# Altium footprint library Capacitance.PcbLib: 58 footprints (part 1 of 4)
Each footprint in its own frame and in the unit in brackets; x right, y up, seen from the top. Pads: shape width x height; smd on the part's side, far side on the other; paste and mask are expansions set on the pad; w line width, h text height; cw(c..) or ccw(c..) is an arc to the next point about the centre after c.
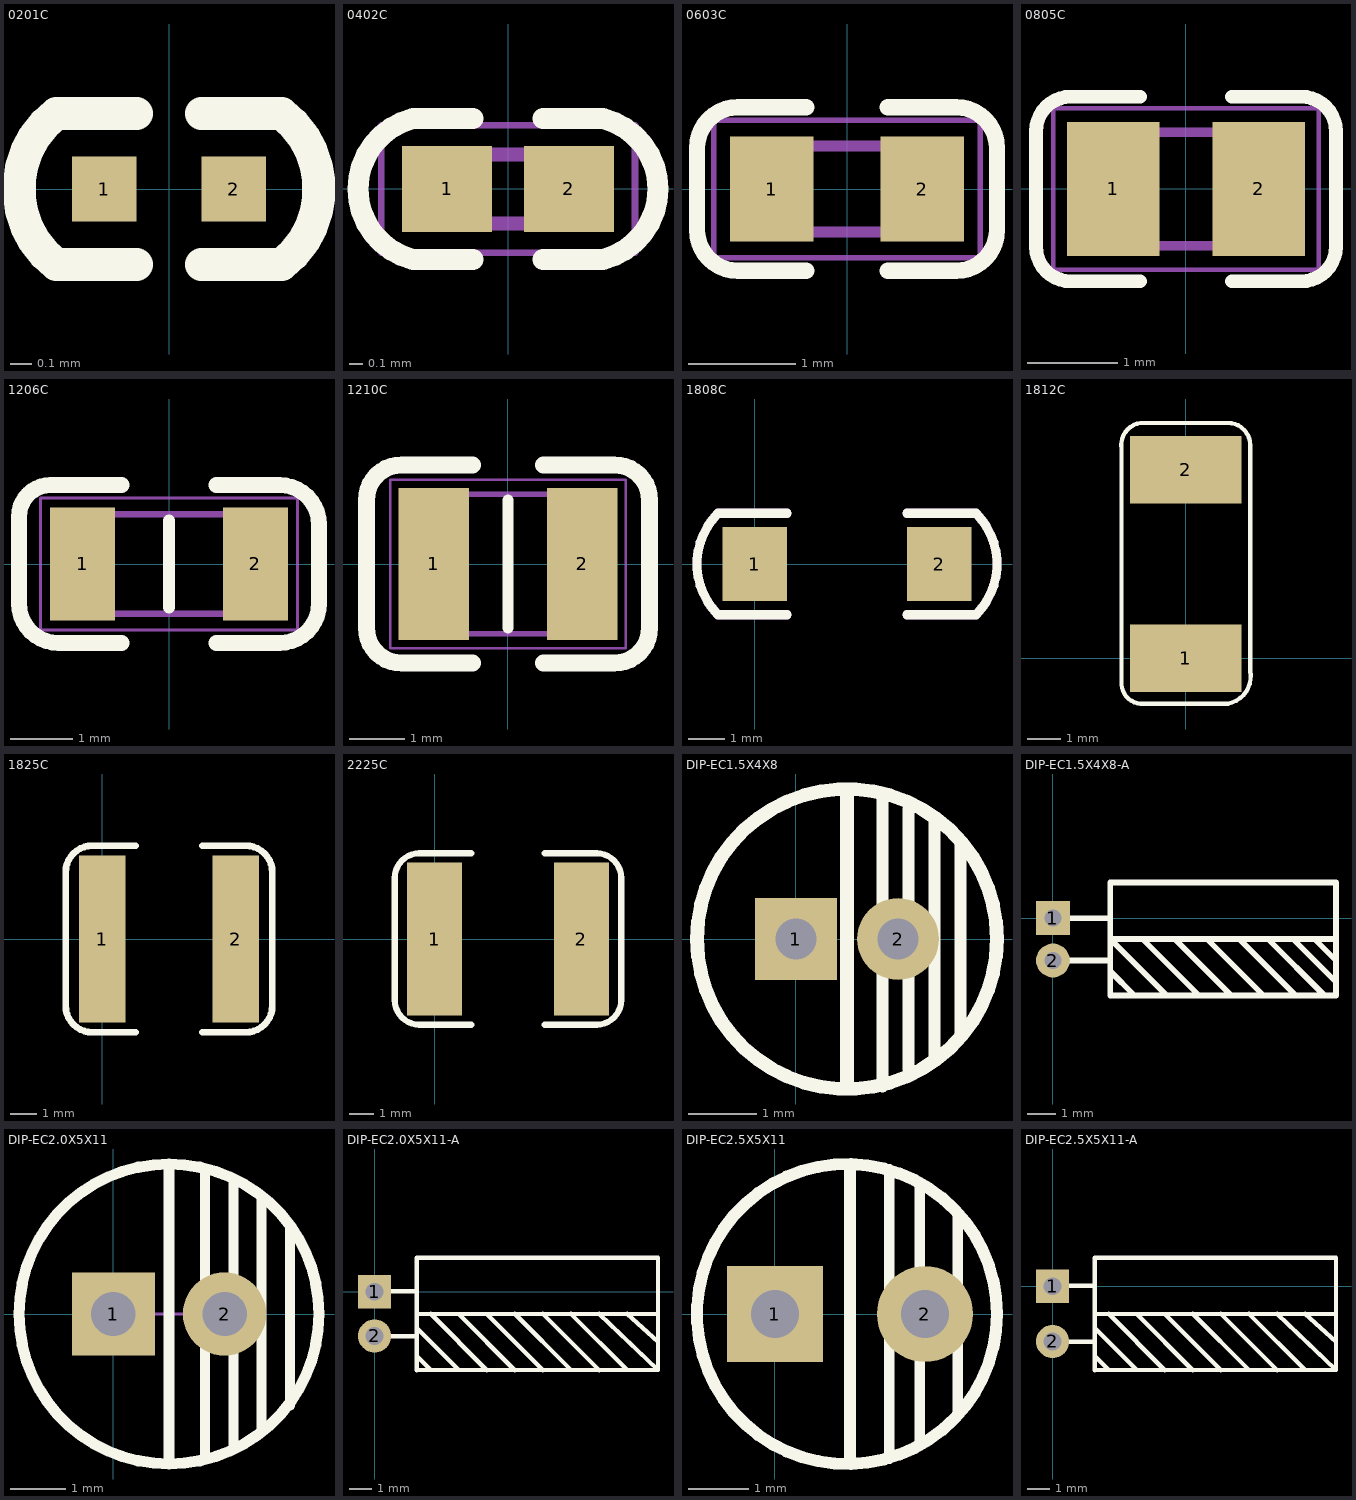
[diagram p0: the footprints below, top view; thin cyan lines are the x and y axes]

## 0201C [mm]
pads (2):
  rect 0.3x0.3 smd: 1(-0.3,0) 2(0.3,0)
Top Overlay:
  lines w0.152: -0.15,-0.35 -0.523,-0.35 cw(c-0.254,0) -0.523,0.35 -0.15,0.35 ; 0.15,-0.35 0.523,-0.35 ccw(c0.254,0) 0.523,0.35 0.15,0.35
3D body "0201C.STEP": height 0.31, standoff 0, extent -0.3,-0.152 0.31,0.153

## 0402C [mm]
pads (2):
  rect 0.65x0.62 smd: 1(-0.44,0) 2(0.44,0)
Top Overlay:
  lines w0.152: -0.254,-0.508 -0.686,-0.508 cw(c-0.559,0) -0.686,0.508 -0.254,0.508 ; 0.254,-0.508 0.686,-0.508 ccw(c0.559,0) 0.686,0.508 0.254,0.508
Mechanical 7:
  lines w0.05: -0.915,-0.46 0.915,-0.46 0.915,0.46 -0.915,0.46 -0.915,-0.46
Mechanical 13:
  lines w0.1: -0.5,-0.25 -0.5,0.25 0.5,0.25 0.5,-0.25 -0.5,-0.25
Mechanical 15:
  lines w0.05: -0.915,-0.46 -0.915,0.46 0.915,0.46 0.915,-0.46 -0.915,-0.46
Mechanical 29:
  lines w0.05: -0.915,-0.46 -0.915,0.46 0.915,0.46 0.915,-0.46 -0.915,-0.46
  text ".Designator" at -0.762,-0.127 h0.38
3D body "C0402C100C5GAC.stp": height 0.55, standoff 0, extent -0.508,-0.25 0.492,0.25

## 0603C [mm]
pads (2):
  rect 0.78x0.98 smd: 1(-0.7,0) 2(0.7,0)
Top Overlay:
  lines w0.152: -0.381,-0.762 -1.016,-0.762 cw(c-1.016,-0.381) -1.397,-0.381 -1.397,0.381 cw(c-1.016,0.381) -1.016,0.762 -0.889,0.762 -0.381,0.762 ; 0.381,-0.762 1.016,-0.762 ccw(c1.016,-0.381) 1.397,-0.381 1.397,0.381 ccw(c1.016,0.381) 1.016,0.762 0.381,0.762
Mechanical 7:
  lines w0.05: -1.24,-0.64 1.24,-0.64 1.24,0.64 -1.24,0.64 -1.24,-0.64
Mechanical 13:
  lines w0.1: -0.8,-0.4 0.8,-0.4 0.8,0.4 -0.8,0.4 -0.8,-0.4
Mechanical 15:
  lines w0.05: -1.24,-0.64 1.24,-0.64 1.24,0.64 -1.24,0.64 -1.24,-0.64
Mechanical 29:
  lines w0.05: -1.24,-0.64 -1.24,0.64 1.24,0.64 1.24,-0.64 -1.24,-0.64
  text ".Designator" at -1.143,-0.127 h0.51
3D body "C0603C100C3GACTU.stp": height 0.87, standoff 0, extent -0.8,-0.4 0.8,0.4

## 0805C [mm]
pads (2):
  rect 1.02x1.47 smd: 1(-0.8,0) 2(0.8,0)
Top Overlay:
  lines w0.152: -0.508,-1.016 -1.27,-1.016 cw(c-1.27,-0.635) -1.651,-0.635 -1.651,0.635 cw(c-1.27,0.635) -1.27,1.016 -0.508,1.016 ; 0.508,-1.016 1.27,-1.016 ccw(c1.27,-0.635) 1.651,-0.635 1.651,0.508 1.651,0.635 ccw(c1.27,0.635) 1.27,1.016 0.508,1.016
Mechanical 7:
  lines w0.05: -1.46,-0.89 1.46,-0.89 1.46,0.89 -1.46,0.89 -1.46,-0.89
Mechanical 13:
  lines w0.1: -1,-0.625 1,-0.625 1,0.625 -1,0.625 -1,-0.625
Mechanical 15:
  lines w0.05: -1.46,-0.89 -1.46,0.89 1.46,0.89 1.46,-0.89 -1.46,-0.89
Mechanical 29:
  lines w0.05: -1.46,-0.89 -1.46,0.89 1.46,0.89 1.46,-0.89 -1.46,-0.89
  text ".Designator" at -1.27,-0.254 h0.76
3D body "C0805C100J5GACTU.stp": height 0.88, standoff 0, extent -1,-0.625 1,0.625

## 1206C [mm]
pads (2):
  rect 1.05x1.82 smd: 1(-1.39,0) 2(1.39,0)
Top Overlay:
  lines w0.2: 0,-0.7 0,0.7
  lines w0.254: -0.762,-1.27 -1.778,-1.27 cw(c-1.778,-0.635) -2.413,-0.635 -2.413,0.762 cw(c-1.905,0.762) -1.905,1.27 -0.762,1.27 ; 0.762,-1.27 1.778,-1.27 ccw(c1.778,-0.635) 2.413,-0.635 2.413,0.635 ccw(c1.778,0.635) 1.778,1.27 0.762,1.27
Mechanical 7:
  lines w0.05: -2.065,-1.06 2.065,-1.06 2.065,1.06 -2.065,1.06 -2.065,-1.06
Mechanical 13:
  lines w0.1: -1.6,-0.8 1.6,-0.8 1.6,0.8 -1.6,0.8 -1.6,-0.8
Mechanical 15:
  lines w0.05: -2.065,-1.06 -2.065,1.06 2.065,1.06 2.065,-1.06 -2.065,-1.06
Mechanical 29:
  lines w0.05: -2.065,-1.06 2.065,-1.06 2.065,1.06 -2.065,1.06
  text ".Designator" at -1.778,-0.381 h0.89
3D body "CL31B106KAHNNNE.stp": height 1.8, standoff 0, extent -1.6,-0.8 1.6,0.8

## 1210C [mm]
pads (2):
  rect 1.26x2.72 smd: 1(-1.33,0) 2(1.33,0)
Top Overlay:
  lines w0.2: 0,-1.15 0,1.15
  lines w0.305: -0.635,-1.778 -1.905,-1.778 cw(c-1.905,-1.143) -2.54,-1.143 -2.54,1.143 cw(c-1.905,1.143) -1.905,1.778 -0.635,1.778 ; 0.635,-1.778 1.905,-1.778 ccw(c1.905,-1.143) 2.54,-1.143 2.54,1.143 ccw(c1.905,1.143) 1.905,1.778 0.635,1.778
Mechanical 7:
  lines w0.05: -2.11,-1.51 2.11,-1.51 ; -2.11,-1.51 -2.11,1.51 ; -2.11,-1.51 2.11,-1.51 ; -2.11,-1.51 -2.11,1.51 ; -2.11,-1.51 -2.11,1.51 ; -2.11,-1.51 2.11,-1.51 ; -2.11,1.51 2.11,1.51 ; -2.11,1.51 2.11,1.51 ; -2.11,1.51 2.11,1.51 ; 2.11,-1.51 2.11,1.51 ; 2.11,-1.51 2.11,1.51 ; 2.11,-1.51 2.11,1.51
Mechanical 13:
  lines w0.1: -1.6,-1.25 -1.6,1.25 1.6,1.25 1.6,-1.25 -1.6,-1.25
Mechanical 15:
  lines w0.05: -2.11,-1.51 2.11,-1.51 2.11,1.51 -2.11,1.51 -2.11,-1.51
Mechanical 29:
  lines w0.05: -2.11,-1.51 2.11,-1.51 ; -2.11,-1.51 -2.11,1.51 ; -2.11,-1.51 -2.11,1.51 ; -2.11,-1.51 2.11,-1.51 ; -2.11,-1.51 -2.11,1.51 ; -2.11,-1.51 2.11,-1.51 ; -2.11,1.51 2.11,1.51 ; -2.11,1.51 2.11,1.51 ; -2.11,1.51 2.11,1.51 ; 2.11,-1.51 2.11,1.51 ; 2.11,-1.51 2.11,1.51 ; 2.11,-1.51 2.11,1.51
  text ".Designator" at -1.905,-0.381 h1.02
3D body "GRM32ER61C476KE15L.stp": height 2.7, standoff 0, extent -1.6,-1.25 1.6,1.25

## 1808C [mil]
pads (2):
  rect 70x80 smd: 1(0,0) 2(200,0)
Top Overlay:
  lines w9.84: -40,-55 cw(c15,0) -40,55 ; 240,-55 ccw(c185,0) 240,55
  lines w10: -40,-55 35,-55 ; -40,55 35,55 ; 165,-55 240,-55 ; 165,55 240,55
Mechanical 7:
  lines w9.84: -40,-55 cw(c15,0) -40,55 ; 240,-55 ccw(c185,0) 240,55
  lines w10: -40,-55 35,-55 ; -40,55 35,55 ; 165,-55 240,-55 ; 165,55 240,55
Mechanical 29:
  lines w9.84: -40,-55 cw(c15,0) -40,55 ; 240,-55 ccw(c185,0) 240,55
  lines w10: -40,-55 35,-55 ; -40,55 35,55 ; 165,-55 240,-55 ; 165,55 240,55
  text ".Designator" at -10,-10 h30
3D body "1808C.STEP": height 80.1, standoff 0, extent -7.5,-40 217.5,40

## 1812C [mm]
pads (2):
  rect 3.302x2 smd: 1(0,0) 2(0,5.572)
Top Overlay:
  lines w0.127: -1.905,6.198 cw(c-1.245,6.299) -1.346,6.96 1.245,6.96 cw(c1.245,6.299) 1.905,6.299 1.905,-0.381 cw(c1.092,-0.533) 1.245,-1.346 -1.346,-1.346 cw(c-1.295,-0.737) -1.905,-0.686 -1.905,6.401
Mechanical 7:
  text ".Comment" at 0.635,-0.254 h0.76
  text ".Designator" at -0.364,-0.268 h0.76
3D body "1812 SMD Capacitor.STEP": height 1.6, standoff 0, extent -1.6,0.544 1.6,5.044

## 1825C [mil]
pads (2):
  rect 70x250 smd: 1(0,0) 2(200,0)
Top Overlay:
  lines w10: 50,-140 -15,-140 cw(c-15,-100) -55,-100 -55,100 cw(c-15,100) -15,140 50,140 ; 150,-140 215,-140 ccw(c215,-100) 255,-100 255,100 ccw(c215,100) 215,140 150,140
Mechanical 7:
  text ".Comment" at -15,-40 h30
  text ".Designator" at -25,35 h30
3D body "1825C.STEP": height 100.1, standoff 0, extent -10.62,-125.99 210.63,126.01

## 2225C [mil]
pads (2):
  rect 90x250 smd: 1(0,0) 2(240,0)
Top Overlay:
  lines w10: 60,-140 -25,-140 cw(c-25,-100) -65,-100 -65,100 cw(c-25,100) -25,140 60,140 ; 180,-140 265,-140 ccw(c265,-100) 305,-100 305,100 ccw(c265,100) 265,140 180,140
Mechanical 7:
  text ".Comment" at 5,-75 h50
  text ".Designator" at 9.43,19.31 h50
3D body "2225C.STEP": height 70.87, standoff 0, extent 7.8,-124.99 232.21,125

## DIP-EC1.5X4X8 [mm]
pads (2):
  rect 1.2x1.2 hole 0.6: 1(0,0)
  round 1.2 hole 0.6: 2(1.5,0)
Top Overlay:
  circle w0.2: c0.75,0 r2.2
  lines w0.178: 1.27,-2.159 1.27,2.032 ; 1.651,-1.905 1.651,1.905 ; 2.032,-1.778 2.032,1.778 ; 2.413,-1.397 2.413,1.397
  lines w0.2: 0.75,-2.159 0.75,-2 0.75,2.159
3D body "CAP 1.5X4X8.STEP": height 8.04, standoff -3.46, extent -1.26,-1.966 2.76,2.032

## DIP-EC1.5X4X8-A [mm]
pads (2):
  rect 1.2x1.2 hole 0.6: 1(0,0)
  round 1.2 hole 0.6: 2(0,-1.5)
Top Overlay:
  lines w0.2: 0,-1.5 2,-1.5 ; 0,0 2,0 ; 2.032,-1.881 2.889,-2.738 2.921,-2.738 ; 2.921,-1.627 2.032,-0.738 ; 3.175,-0.738 5.175,-2.738 5.207,-2.738 ; 4.064,-2.738 4.032,-2.738 2.032,-0.738 ; 4.318,-0.738 6.318,-2.738 6.35,-2.738 ; 5.461,-0.738 7.461,-2.738 7.493,-2.738 ; 6.604,-0.738 8.604,-2.738 8.636,-2.738 ; 7.62,-0.738 9.597,-2.715 ccw(c9.652,-2.661) 9.652,-2.738 ; 8.509,-0.738 10.031,-2.26 cw(c10.03,-2.262) 10.032,-2.262 ; 9.271,-0.738 10.031,-1.498 cw(c10.03,-1.5) 10.032,-1.5 ; 10.032,-0.738 2.032,-0.738 ; 2.032,-2.738 10.032,-2.738 10.032,1.262 2.032,1.262 2.032,-2.738
3D body "CAP 1.5X4X8-H.STEP": height 4.02, standoff -3.48, extent -0.254,-2.772 9.996,1.248

## DIP-EC2.0X5X11 [mm]
pads (2):
  rect 1.5x1.5 hole 0.8: 1(0,0)
  round 1.5 hole 0.8: 2(2,0)
Top Overlay:
  circle w0.2: c1,0 r2.7
  lines w0.178: 1.651,-2.54 1.651,2.54 ; 2.159,-2.413 2.159,2.413 ; 2.667,-2.032 2.667,2.032 ; 3.175,-1.651 3.175,1.524
  lines w0.2: 1,-2.667 1,-2 1,2.667
Mechanical 15:
  lines w0.05: 0.5,0 1.5,0
3D body "CAP 2.0X5X11.STEP": height 11.04, standoff -3.42, extent -1.524,-2.5 3.486,2.5

## DIP-EC2.0X5X11-A [mm]
pads (2):
  rect 1.5x1.5 hole 0.8: 1(0,0)
  round 1.5 hole 0.8: 2(0,-2)
Top Overlay:
  lines w0.2: 0.762,-2.016 1.905,-2.016 ; 0.762,0.016 1.905,0.016 ; 1.905,-2.905 2.54,-3.54 ; 1.905,-1.635 3.81,-3.54 ; 1.905,-1.006 12.827,-1 ; 2.54,-1 5.08,-3.548 ; 3.81,-1.005 6.35,-3.547 ; 5.08,-1.004 7.62,-3.545 ; 6.35,-1 8.89,-3.54 ; 7.62,-1.003 10.16,-3.543 ; 8.89,-1.002 11.43,-3.541 ; 10.16,-1.001 12.827,-3.54 ; 11.43,-1.001 12.827,-2.27 ; 12.827,-3.54 1.905,-3.552 1.905,1.54 12.827,1.54 12.827,-3.54
3D body "CAP 2.0X5X11-H.STEP": height 5.02, standoff -3.48, extent -0.254,-3.521 12.956,1.489

## DIP-EC2.5X5X11 [mm]
pads (2):
  rect 1.6x1.6 hole 0.8: 1(0,0)
  round 1.6 hole 0.8: 2(2.5,0)
Top Overlay:
  circle w0.2: c1.2,0 r2.5
  lines w0.178: 1.905,-2.413 1.905,2.413 ; 2.413,-2.159 2.413,2.159 ; 3.048,-1.651 3.048,1.651
  lines w0.2: 1.25,-2.489 1.25,2.413
3D body "CAP 2.5X5X11.STEP": height 11.03, standoff -3.43, extent -1.255,-2.586 3.755,2.413

## DIP-EC2.5X5X11-A [mm]
pads (2):
  rect 1.5x1.5 hole 0.8: 1(0,0)
  round 1.5 hole 0.8: 2(0,-2.5)
Top Overlay:
  lines w0.2: 0.762,-2.516 1.905,-2.516 ; 0.762,0.016 1.905,0.016 ; 1.905,-3.155 2.54,-3.79 ; 1.905,-1.885 3.81,-3.79 ; 1.905,-1.256 12.827,-1.25 ; 2.54,-1.25 5.08,-3.798 ; 3.81,-1.255 6.35,-3.797 ; 5.08,-1.254 7.62,-3.795 ; 6.35,-1.25 8.89,-3.79 ; 7.62,-1.253 10.16,-3.793 ; 8.89,-1.252 11.43,-3.791 ; 10.16,-1.251 12.827,-3.79 ; 11.43,-1.251 12.827,-2.52 ; 12.827,-3.79 1.905,-3.802 1.905,1.29 12.827,1.29 12.827,-3.79
3D body "CAP 2.5X5X11-H.STEP": height 5.02, standoff -3.48, extent -0.255,-3.74 12.955,1.27